# Altium schematic symbol library ICs-FlashMemory.SchLib: 4 symbols
Pins are listed as number, name and electrical type; pins without a type are passive.

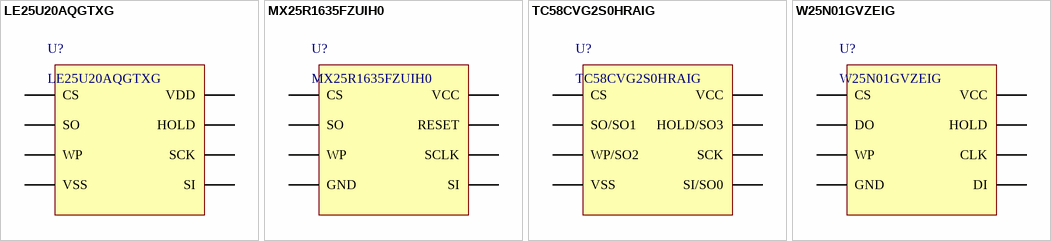
[diagram p0: symbols LE25U20AQGTXG to W25N01GVZEIG]

## LE25U20AQGTXG
designator U?
IC FLASH 2M SPI 30MHZ 8WDFN; Manufacturer: ON Semiconductor; PartNumber: LE25U20AQGTXG; Mounting Technology: Surface Mount; PackageReference: WDFN-8
footprint WDFN-8 (2x3MM) (SON, 8-Leads, Body 2.00x3.00mm, Pitch 0.50mm, Thermal Pad 1.50x1.88mm, IPC Medium Density)
pins: 1 CS, 2 SO, 3 WP, 4 VSS, 5 SI (power), 6 SCK, 7 HOLD, 8 VDD

## MX25R1635FZUIH0
designator U?
Manufacturer: Macronix; PartNumber: MX25R1635FZUIH0; Mounting Technology: Surface Mount; PackageReference: USON-8
footprint USON-8 (SON, 8-Leads, Body 2.00x3.00mm, Pitch 0.50mm, Thermal Pad 1.60x0.20mm, IPC Medium Density); pin to pad 4>4+9
pins: 1 CS, 2 SO, 3 WP, 4 GND, 5 SI (power), 6 SCLK, 7 RESET, 8 VCC

## TC58CVG2S0HRAIG
designator U?
IC FLASH 4G SPI 104MHZ 8WSON; Manufacturer: Toshiba Memory America, Inc.; PartNumber: TC58CVG2S0HRAIG; Mounting Technology: Surface Mount; PackageReference: WSON-8
footprint WSON-8 (6X8MM) (SON, 8-Leads, Body 6.00x8.00mm, Pitch 1.27mm, Thermal Pad 5.20x4.65mm, IPC Medium Density); pin to pad 4>4+9
pins: 1 CS, 2 SO/SO1, 3 WP/SO2, 4 VSS, 5 SI/SO0 (power), 6 SCK, 7 HOLD/SO3, 8 VCC

## W25N01GVZEIG
designator U?
Manufacturer: Winbond Electronics; PartNumber: W25N01GVZEIG; Mounting Technology: Surface Mount; PackageReference: WSON-8
footprint WSON-8 (6X8MM) (SON, 8-Leads, Body 6.00x8.00mm, Pitch 1.27mm, Thermal Pad 5.20x4.65mm, IPC Medium Density); pin to pad 4>4+9
pins: 1 CS, 2 DO, 3 WP, 4 GND, 5 DI (power), 6 CLK, 7 HOLD, 8 VCC